# EAGLE library part USB-STECK-4POL-SMD (library USB-Stecker)
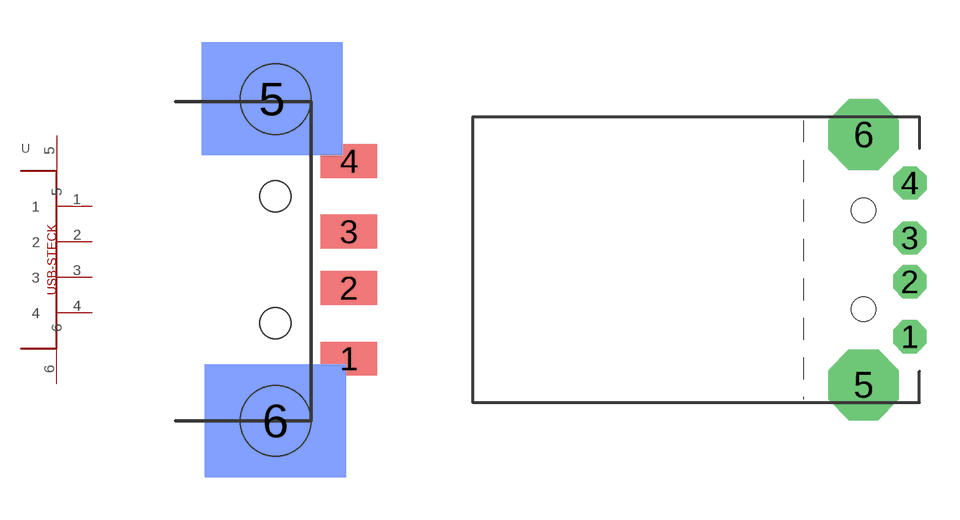
[diagram p0: symbol with the pads of STECK-USB-SMD-4P; footprints STECK-USB-SMD-4P, STECK-USB-THT-4P]

Designator prefix -

## USB-STECK-4POL-SMD  [STECK-USB-SMD-4P]
1  1
2  2
3  3
4  4
5  5
6  6

## USB-STECK-4POL-SMDSTECK-USB-THT-4P  [STECK-USB-THT-4P]
Pads as for STECK-USB-SMD-4P

## Footprint STECK-USB-SMD-4P (pad centres in mm)
LUMBERG - 2410 07 - STECKER, USB-TYP A SMD ABGEWINKELT Hersteller: LUMBERG Farnell Best.Nr.: 1308875 Herst.Bez.: 2410 07
smd 2 x 1.2: 1 2.6,-3.5; 2 2.6,-1; 3 2.6,1; 4 2.6,3.5
smd 5 x 4 bottom: 5 -0.12,5.71; 6 0,-5.7
hole 1.1 at 0,-2.25
hole 1.1 at 0,2.25
hole 2.5 at 0,5.7
hole 2.5 at 0,-5.7

## Footprint STECK-USB-THT-4P (pad centres in mm)
drill 1 octagon: 1 2.1,-3.5; 2 2.1,-1; 3 2.1,1; 4 2.111,3.5
drill 2.2 octagon: 5 0,-5.7; 6 0,5.7
hole 1.1 at 0,2.25
hole 1.1 at 0,-2.25